# Altium schematic symbol library VapeixS_LIB.SchLib: 32 symbols
Pins are listed as number, name and electrical type; pins without a type are passive.

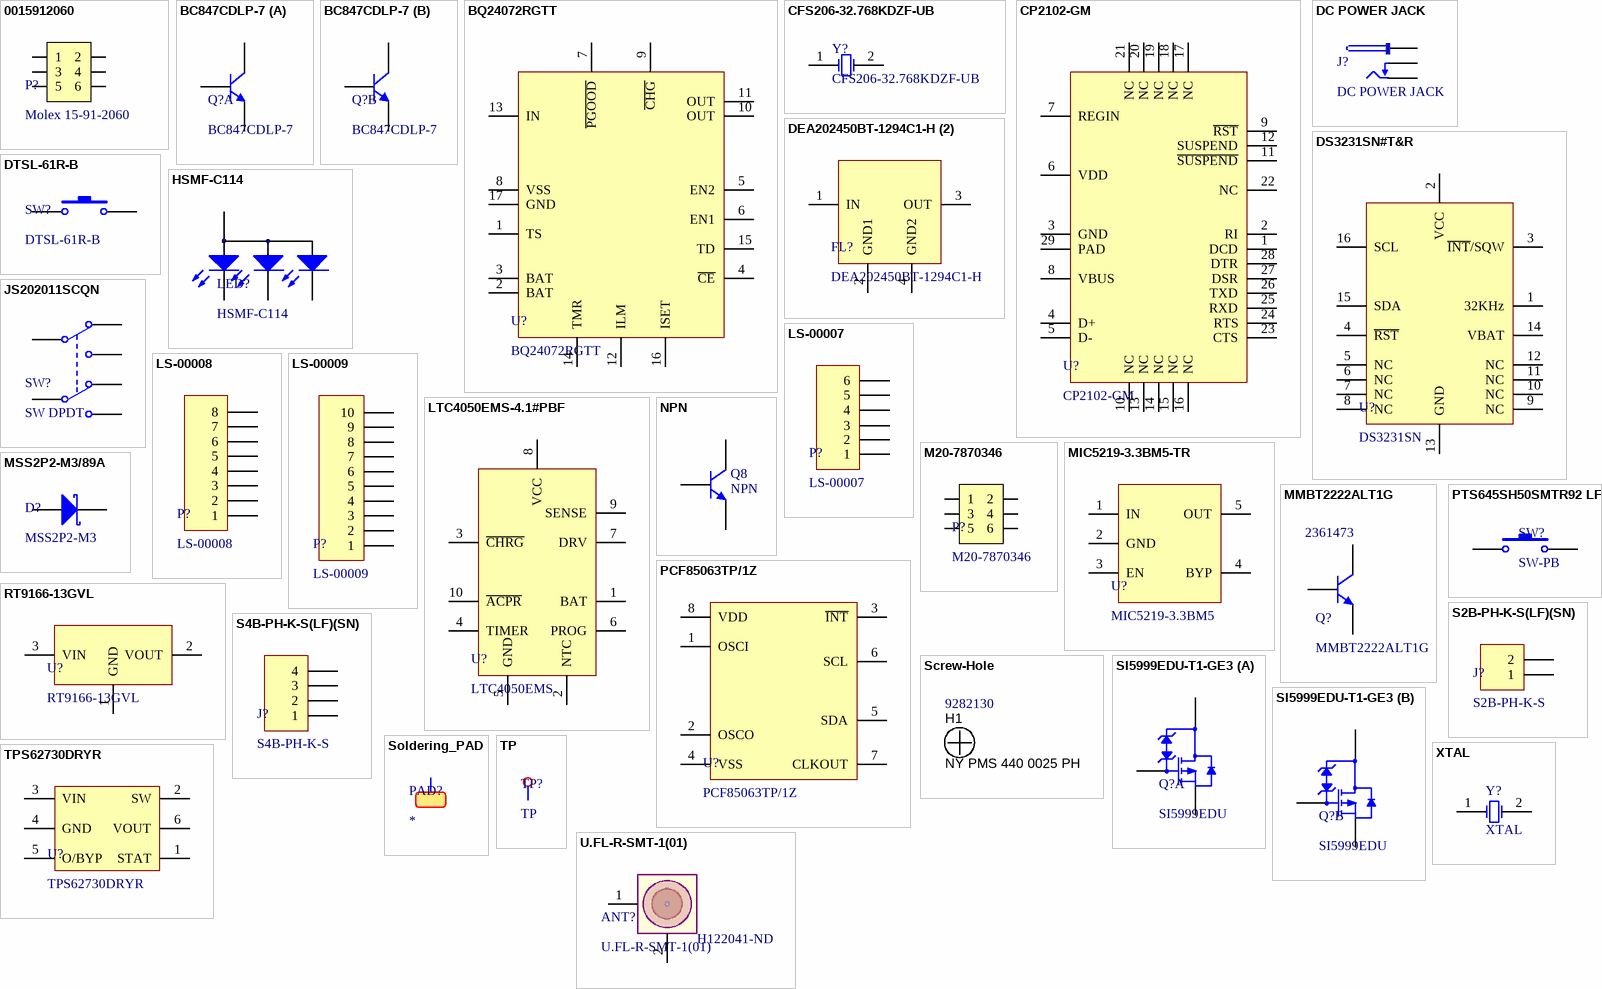
[diagram p0: symbols 0015912060 to XTAL]

## 0015912060
designator P?, comment Molex 15-91-2060
CONN HEADER 6POS .100" VERT TIN; Manufacturer: Molex, LLC; Manufacturer Part Number: 0015912060; Connector Type: Header, Unshrouded, Breakaway; Number of Positions: 6; Number of Positions Loaded: All; Pitch: 0.100" (2.54mm); Frequency: 32.768 kHz; Load Capacitance: 12.5 pF; Tolerance: 20 PPM; Brand: Citizen FineDevice; ESR: 35 kOhms; Supplier 1: Digi-Key; RoHS: RoHS Compliant; Category: Connectors, Interconnects; Stock 1: 10294; Pricing 1: 1=0.43, 10=0.4, 25=0.36, 50=0.32, 100=0.3066, 250=0.27992, 500=0.2666, 1000=0.21995, 2500=0.19995 (USD); Packaging: Bulk; Contact Type: Male Pin; Number of Rows: 2; Row Spacing: 0.100" (2.54mm); Contact Mating Length: 0.240" (6.10mm); Mounting Type: Surface Mount; Termination: Solder; Fastening Type: -; Features: -; Contact Finish: Tin; Contact Finish Thickness: 150µin (3.81µm); Color: Black; ComponentLink1URL: http://www.molex.com/pdm_docs/sd/015912060_sd.pdf; ComponentLink1Description: http://www.molex.com/pdm_docs/sd/015912060_sd.pdf; Supplier 2: Mouser; Stock 2: 8057; Pricing 2: 1=0.300, 10=0.260, 50=0.220, 100=0.180, 500=0.160, 1000=0.140, 2000=0.130, 5000=0.120, 10000=0.110 (USD); Diameter: 2 mm; Length: 6 mm; Operating Temperature Range: - 20 C to + 70 C; Package / Case: Cylinder; Series: CFS-206/CFS-145/CFV-206; Termination Style: Radial; Type: Tuning Fork Crystal; Mounting Style: Through Hole; Lead Spacing: 0.7 mm; Product Category: KHz Range Crystals; Standard Pack Qty: 1000; RoHS - Mouser: Y; Minimum Order Quantity: 1; Reeling: False; ComponentLink2URL: http://www.mouser.com/ds/2/77/CFS-CFV-4402.pdf; ComponentLink2Description: http://www.mouser.com/ds/2/77/CFS-CFV-4402.pdf; Supplier 3: Digi-Key; Supplier 4: Digi-Key
footprint Molex 15-91-2060
pins: 1, 2, 3 (power), 4 (power), 5 (power), 6 (power)

## BC847CDLP-7
designator Q?
TRANS 2NPN 45V 0.1A 6DFN; Manufacturer: Diodes Incorporated; Transistor Type: 2 NPN (Dual); Current - Collector (Ic) (Max): 100mA; Vce Saturation (Max) @ Ib, Ic: 600mV @ 5mA, 100mA; Current - Collector Cutoff (Max): 15nA; DC Current Gain (hFE) (Min) @ Ic, Vce: 420 @ 2mA, 5V; Power - Max: 350mW; Frequency - Transition: 100MHz; Supplier 1: Digi-Key; Manufacturer Part Number: BC847CDLP-7; RoHS: RoHS Compliant; Category: Discrete Semiconductor Products; Stock 1: 11845; Pricing 1: 1=0.36, 10=0.29, 100=0.198, 500=0.1482, 1000=0.111 (USD); Packaging: Cut Tape (CT); Voltage - Collector Emitter Breakdown (Max): 45V; Mounting Type: Surface Mount; Package / Case: 6-SMD, No Lead; Supplier Device Package: 6-DFN1310H4 (1.0x1.3); ComponentLink1URL: http://www.diodes.com/_files/datasheets/ds30817.pdf; ComponentLink1Description: http://www.diodes.com/_files/datasheets/ds30817.pdf
footprint BC847CDLP-7 (TRANS 2NPN 45V 0.1A 6DFN)
part A pins: 1 E1, 2 B1, 3 C1
part B pins: 4 E2, 5 B2, 6 C2

## BQ24072RGTT
designator U?
TEXAS INSTRUMENTS - BQ24072RGTT - BATTERY CHARGER LI-ION, 1.5A, QFN-16; Input Voltage: 26; Battery Charge Voltage: 4.2; Charge Current Max: 1.2; Battery IC Case Style: QFN; No. of Pins: 16; No. of Series Cells: 1; Supplier 1: Newark; Manufacturer: TEXAS INSTRUMENTS; Manufacturer Part Number: BQ24072RGTT; RoHS: YES; Stock 1: 134; Pricing 1: 1=1.6, 10=1.6, 25=1.47, 50=1.47, 100=1.47 (USD); Battery Type: Li-Ion; Operating Temperature Min: -40 C; ComponentLink1URL: http://www.farnell.com/cad/1638885.zip; ComponentLink1Description: http://www.farnell.com/cad/1638885.zip; ComponentLink2URL: http://www.farnell.com/datasheets/2001589.pdf; ComponentLink2Description: http://www.farnell.com/datasheets/2001589.pdf; Supplier Part Number 1: 12P6258
footprint BQ24072RGTT (TEXAS INSTRUMENTS - BQ24072RGTT - BATTERY CHARGER LI-ION, 1.5A, QFN-16)
pins: 1 TS, 2 BAT, 3 BAT, 4 ~{CE}, 5 EN2, 6 EN1, 7 ~{PGOOD}, 8 VSS, 9 ~{CHG}, 10 OUT, 11 OUT, 12 ILM, 13 IN, 14 TMR, 15 TD, 16 ISET, 17 GND

## CFS206-32.768KDZF-UB
designator Y?
Crystals 32.768 KHz 12.5pF CYLINDER CRYSTAL; Manufacturer: Citizen FineDevice; Tolerance: 20 PPM; ESR: 35 kOhms; Supplier 1: Mouser; Manufacturer Part Number: CFS206-32.768KDZF-UB; RoHS: RoHS Compliant; Category: Crystals; Stock 1: 8057; Pricing 1: 1=0.300, 10=0.260, 50=0.220, 100=0.180, 500=0.160, 1000=0.140, 2000=0.130, 5000=0.120, 10000=0.110 (USD); Diameter: 2 mm; Frequency: 32.768 kHz; Length: 6 mm; Load Capacitance: 12.5 pF; Operating Temperature Range: - 20 C to + 70 C; Package / Case: Cylinder; Packaging: Bulk; Series: CFS-206/CFS-145/CFV-206; Termination Style: Radial; Type: Tuning Fork Crystal; Brand: Citizen FineDevice; Mounting Style: Through Hole; Lead Spacing: 0.7 mm; Product Category: KHz Range Crystals; Standard Pack Qty: 1000; RoHS - Mouser: Y; Minimum Order Quantity: 1; Reeling: False; ComponentLink1URL: http://www.mouser.com/ds/2/77/CFS-CFV-4402.pdf; ComponentLink1Description: http://www.mouser.com/ds/2/77/CFS-CFV-4402.pdf
footprint CFS206-32.768KDZF-UB (Crystals 32.768 KHz 12.5pF CYLINDER CRYSTAL)
pins: 1 OSC1, 2 OSC2

## CP2102-GM
designator U?
SILICON LABS - CP2102-GM - USB-TO-UART BRIDGE, 3.6V, MLP-28; USB Type: USB UART; USB Standard: USB 2.0; Supply Voltage Min: 3; Supply Voltage Max: 3.6; Interface Case Style: QFN; No. of Pins: 28; Data Rate: 1; No. of Ports: 1 Port; Base Number: 2102; Bridge Type: USB to UART; Supply Voltage Range: 3V to 5.25V<!--FANDB--><div class="features-and-benefits-container"><div class="features-and-benefits-desc-container"><span class="features-and-benefits-container-desc">USB to UART Bridge Controller in QFN-28 Package</span></div><div class="features-and-benefits-description"><span class="features-benefits-value">The CP2102-GM is a highly integrated USB to UART Bridge Controller providing a simple solution for updating RS-232 designs to USB using a minimum of components and PCB space. The CP2102-GM includes a USB 2.0 full speed function controller, USB transceiver, oscillator, EEPROM, and asynchronous serial data bus (UART) with full modem control signals. No other external USB components are required. The on chip EEPROM may be used to customise the USB Vendor ID, Product ID, Product Description String, Power Descriptor, Device Release Number, and Device Serial Number as desired for OEM applications. The EEPROM is programmed on board via the USB, allowing the programming step to be easily integrated into the product manufacturing and testing process.</span></div><div class="features-and-benefits-list"><ul class="features-and-benefits-list-list"><li class="features-and-benefits-list-item">Integrated USB transceiver; no external crystal required</li><li class="features-and-benefits-list-item">Integrated 1024 Byte EEPROM</li><li class="features-and-benefits-list-item">On chip power on reset circuit</li><li class="features-and-benefits-list-item">On chip voltage regulator: 3.3V output</li><li class="features-and-benefits-list-item">USB Specification 2.0 compliant; full-speed (12 Mbps)</li><li class="features-and-benefits-list-item">USB suspend states supported via SUSPEND pins</li><li class="features-and-benefits-list-item">All handshaking and modem interface signals</li><li class="features-and-benefits-list-item">Baud rates: 300 bps to 1 Mbits</li><li class="features-and-benefits-list-item">576 Byte receive buffer; Supplier 1: Farnell; Manufacturer: SILICON LABS; Manufacturer Part Number: CP2102-GM; RoHS: YES; Stock 1: 9194; Pricing 1: 1=1.82, 10=1.72, 100=1.69, 250=1.66, 500=1.62, 2000=1.59, 3000=1.56, 5000=1.55 (GBP); Operating Temperature Min: -40; Operating Temperature Max: 85; Packaging: Each; MSL: -; Logic Function Number: 2102; Operating Temperature Range: -40°C to +85; ComponentLink1URL: http://www.farnell.com/datasheets/1694195.pdf; ComponentLink1Description: http://www.farnell.com/datasheets/1694195.pdf; Supplier Part Number 1: 9282130
footprint CP2102-GM (SILICON LABS - CP2102-GM - USB-TO-UART BRIDGE, 3.6V, MLP-28)
pins: 1 DCD, 2 RI, 3 GND, 4 D+, 5 D-, 6 VDD, 7 REGIN, 8 VBUS, 9 ~{RST}, 10 NC, 11 ~{SUSPEND}, 12 SUSPEND, 13 NC, 14 NC, 15 NC, 16 NC, 17 NC, 18 NC, 19 NC, 20 NC, 21 NC, 22 NC, 23 CTS, 24 RTS, 25 RXD, 26 TXD, 27 DSR, 28 DTR, 29 PAD

## DC POWER JACK
designator J?
Adafruit Accessories 2.1mm DC Barrel Jack Breadboard Friendly; Manufacturer Part Number: 373; Supplier 1: Mouser; Manufacturer: Adafruit; RoHS: RoHS Compliant; Category: Adafruit Accessories; Stock 1: 0; Pricing 1: 1=0.950, 10=0.860 (USD); Product: Connectors; Type: DC Power Connectors; Brand: Adafruit; RoHS - Mouser: Y; Minimum Order Quantity: 1; Reeling: False
footprint DC POWER JACK (Adafruit Accessories 2.1mm DC Barrel Jack Breadboard Friendly)
pins: 1, 2, 3

## DEA202450BT-1294C1-H (2)
designator FL?, comment DEA202450BT-1294C1-H
FILTER BANDPASS WLAN&BLUETOOTH; Manufacturer: TDK Corporation; Supplier 1: Digi-Key; Manufacturer Part Number: DEA202450BT-1294C1-H; RoHS: RoHS Compliant; Category: Filters; Stock 1: 14479; Pricing 1: 1=0.51, 10=0.477, 100=0.4252, 250=0.40324, 500=0.33724, 1000=0.26173 (USD); ComponentLink1URL: https://product.tdk.com/info/en/documents/data_sheet/rf_bpf_dea202450bt-1294c1-h_en.pdf; ComponentLink1Description: https://product.tdk.com/info/en/documents/data_sheet/rf_bpf_dea202450bt-1294c1-h_en.pdf; Supplier Part Number 1: 445-172335-1-ND
footprint DEA202450BT-1294C1-H (FILTER BANDPASS WLAN&BLUETOOTH)
pins: 1 IN, 2 GND1, 3 OUT, 4 GND2

## DS3231SN#T&R
designator U?, comment DS3231SN
IC RTC CLK/CALENDAR I2C 16-SOIC; Manufacturer: Maxim Integrated; Manufacturer Part Number: DS3231SN#T&R; Time Format: HH:MM:SS (12/24 hr); Date Format: YY-MM-DD-dd; Interface: I²C, 2-Wire Serial; Voltage - Supply: 2.3 V ~ 5.5 V; Current - Timekeeping (Max): 110µA ~ 170µA @ 3.63V ~ 5.5V; Supplier 1: Digi-Key; RoHS: RoHS Compliant; Category: Integrated Circuits (ICs); Stock 1: 4351; Pricing 1: 1=9.97, 10=9.41, 25=7.5276, 50=7.1512, 100=6.5867, 250=6.24792, 500=6.02208 (USD); Packaging: Cut Tape (CT); Type: Clock/Calendar; Features: Alarm, Leap Year, Square Wave Output, TCXO/Crystal; Memory Size: -; Voltage - Supply, Battery: 2.3 V ~ 5.5 V; Operating Temperature: -40°C ~ 85°C; Mounting Type: Surface Mount; Package / Case: 16-SOIC (0.295", 7.50mm Width); Supplier Device Package: 16-SOIC; ComponentLink1URL: http://datasheets.maximintegrated.com/en/ds/DS3231-DS3231S.pdf; ComponentLink1Description: http://datasheets.maximintegrated.com/en/ds/DS3231-DS3231S.pdf
footprint DS3231SN (IC RTC CLK/CALENDAR I2C 16-SOIC)
pins: 1 32KHz, 2 VCC, 3 ~{INT}/SQW, 4 ~{RST}, 5 NC, 6 NC, 7 NC, 8 NC, 9 NC, 10 NC, 11 NC, 12 NC, 13 GND, 14 VBAT, 15 SDA, 16 SCL

## DTSL-61R-B
designator SW?
MULTICOMP - DTSL-61R-B - TACTILE SWITCH, SPNO, SMD; Supplier 1: Farnell; Manufacturer: MULTICOMP; Manufacturer Part Number: DTSL-61R-B; RoHS: YES; Stock 1: 15029; Pricing 1: 5=0.477, 50=0.399, 100=0.366, 250=0.314, 500=0.254, 2000=0.228, 4000=0.2, 20000=0.18 (GBP); ComponentLink1URL: http://www.farnell.com/cad/44709.pdf; ComponentLink1Description: http://www.farnell.com/cad/44709.pdf; ComponentLink2URL: http://www.farnell.com/datasheets/1685039.pdf; ComponentLink2Description: http://www.farnell.com/datasheets/1685039.pdf
pins: 1, 2

## HSMF-C114
designator LED?
LED RGB DIFFUSED 0606 SMD; Manufacturer: Broadcom Limited; Color: Red, Green, Blue (RGB); Lens Color: White; Millicandela Rating: 85mcd Red, 180mcd Green, 70mcd Blue; Lens Style/Size: Rectangle with Flat Top, 1.10mm x 1.50mm; Voltage - Forward (Vf) (Typ): 1.9V Red, 3.4V Green, 3.4V Blue; Current - Test: 20mA Red, 20mA Green, 20mA Blue; Viewing Angle: 140° Red, 145° Green, 145° Blue; Wavelength - Dominant: 626nm Red, 525nm Green, 470nm Blue; Wavelength - Peak: 637nm Red, 523nm Green, 468nm Blue; Supplier 1: Digi-Key; Manufacturer Part Number: HSMF-C114; RoHS: RoHS Compliant; Category: Optoelectronics; Stock 1: 11787; Pricing 1: 1=2.03, 10=1.62, 25=1.2376, 100=1.125, 250=0.99, 500=0.8325, 1000=0.72 (USD); Packaging: Digi-Reel®; Lens Transparency: Diffused; Mounting Type: Surface Mount; Features: -; Package / Case: 0606 (1616 Metric); Supplier Device Package: Chip LED; Size / Dimension: 1.60mm L x 1.50mm W; Height (Max): 0.35mm; ComponentLink1URL: http://www.avagotech.com/docs/AV02-2451EN; ComponentLink1Description: http://www.avagotech.com/docs/AV02-2451EN
footprint HSMF-C114 (LED RGB DIFFUSED 0606 SMD)
pins: 1 ANODE, 2 RED, 3 GREEN, 4 BLUE

## JS202011SCQN
designator SW?, comment SW DPDT
SWITCH SLIDE DPDT 300MA 6V; Manufacturer: C&K Components; Manufacturer Part Number: JS202011SCQN; Contact Timing: Not Specified; Switch Function: On-On; Current Rating: 300mA (DC); Actuator Type: Standard; Actuator Length: 2.00mm; Actuator Material: Polyamide (PA46), Nylon 4/6; Electrical Life: 5,000 Cycles; Supplier 1: Digi-Key; RoHS: RoHS Compliant; Category: Switches; Stock 1: 26140; Pricing 1: 1=0.46, 10=0.441, 25=0.4316, 50=0.3858, 100=0.3674, 250=0.3582, 500=0.3031 (USD); Packaging: Cut Tape (CT); Circuit: DPDT; Voltage Rating - AC: -; Voltage Rating - DC: 6V; Contact Material: Copper Alloy; Contact Finish: Silver; Mounting Type: Surface Mount; Termination Style: Gull Wing; Features: -; Switch Travel: 2.00mm; Operating Temperature: -40°C ~ 85°C; Mechanical Life: -; Operating Force: -; ComponentLink1URL: http://www.ck-components.com/14398/js_7jan16.pdf/; ComponentLink1Description: http://www.ck-components.com/14398/js_7jan16.pdf/
footprint JS202011SCQN (SWITCH SLIDE DPDT 300MA 6V)
pins: 1 NC1, 2 COMMON1, 3 NO1, 4 NC2, 5 COMMON2, 6 NO2

## LS-00007
designator P?
Arduino Female Stackable Header - 6 pin(4 pack); Manufacturer: OSEPP; Supplier 1: Allied; Manufacturer Part Number: LS-00007; RoHS: No; Stock 1: 27; Pricing 1: 1=1.7500, 10=1.5700, 25=1.4100 (USD); ComponentLink1URL: http://www.alliedelec.com/images/products/datasheets/bm/OSEPP/70662540.pdf; ComponentLink1Description: http://www.alliedelec.com/images/products/datasheets/bm/OSEPP/70662540.pdf; ComponentLink2URL: http://www.alliedelec.com/osepp-ls-00007/70662540/; ComponentLink2Description: http://www.alliedelec.com/osepp-ls-00007/70662540/
footprint LS-00007 (Arduino Female Stackable Header - 6 pin(4 pack))
pins: 1, 2, 3, 4, 5, 6

## LS-00008
designator P?
Arduino Femal e Stackable Headers - 8 pin (4 pack); Manufacturer: OSEPP; Supplier 1: Allied; Manufacturer Part Number: LS-00008; RoHS: No; Stock 1: 3; Pricing 1: 1=1.7500, 10=1.5700, 25=1.4000 (USD); ComponentLink1URL: http:; ComponentLink1Description: http:; ComponentLink2URL: http://www.alliedelec.com/osepp-ls-00008/70662541/; ComponentLink2Description: http://www.alliedelec.com/osepp-ls-00008/70662541/
footprint LS-00008 (Arduino Femal e Stackable Headers - 8 pin (4 pack))
pins: 1, 2, 3, 4, 5, 6, 7, 8

## LS-00009
designator P?
Arduino Female Stackable Header - 10 pin (4 pack); Manufacturer: OSEPP; Supplier 1: Allied; Manufacturer Part Number: LS-00009; RoHS: No; Stock 1: 150; Pricing 1: 1=1.7500, 10=1.5700, 25=1.4000 (USD); ComponentLink1URL: http:; ComponentLink1Description: http:; ComponentLink2URL: http://www.alliedelec.com/osepp-ls-00009/70662542/; ComponentLink2Description: http://www.alliedelec.com/osepp-ls-00009/70662542/
footprint LS-00009 (Arduino Female Stackable Header - 10 pin (4 pack))
pins: 1, 2, 3, 4, 5, 6, 7, 8, 9, 10

## LTC4050EMS-4.1#PBF
designator U?, comment LTC4050EMS
IC BATT CHRG CNTRL LI-ION 10MSOP; Manufacturer: Linear Technology; Manufacturer Part Number: LTC4050EMS-4.1#PBF; Function: Charge Management; Voltage - Supply: 4.5 V ~ 10 V; Supplier 1: Digi-Key; RoHS: RoHS Compliant; Category: Integrated Circuits (ICs); Stock 1: 1327; Pricing 1: 1=4.77, 25=3.1696, 100=2.3869 (USD); Packaging: Tube; Battery Chemistry: Li-Ion; Operating Temperature: -40°C ~ 85°C; Mounting Type: Surface Mount; Package / Case: 10-TFSOP, 10-MSOP (0.118", 3.00mm Width); Supplier Device Package: 10-MSOP; ComponentLink1URL: http://www.linear.com/docs/3321; ComponentLink1Description: http://www.linear.com/docs/3321
footprint LTC4050EMS (IC BATT CHRG CNTRL LI-ION 10MSOP)
pins: 1 BAT, 2 NTC, 3 ~{CHRG}, 4 TIMER, 5 GND, 6 PROG, 7 DRV, 8 VCC, 9 SENSE, 10 ~{ACPR}

## M20-7870346
designator P?
Headers & Wire Housings 03+03 DIL SMT SKT BOTTOM ENTRY TIN; Manufacturer: Harwin; Number of Positions: 6 Position; Pitch: 2.54 mm; Supplier 1: Mouser; Manufacturer Part Number: M20-7870346; RoHS: RoHS Compliant; Category: Headers & Wire Housings; Stock 1: 507; Pricing 1: 1=0.730, 10=0.584, 100=0.508, 500=0.457, 1000=0.406, 2500=0.368, 5000=0.356, 10000=0.338, 25000=0.325 (USD); Number of Rows: 2 Row; Packaging: Tube; Product: Headers; Series: M20; Termination Style: SMD; Type: Socket Assembly; Brand: Harwin; Mounting Style: -; Product Category: 2.54mm M20 SMT Connectors; Standard Pack Qty: 73; RoHS - Mouser: Y; Minimum Order Quantity: 1; Reeling: False; ComponentLink1URL: http://www.mouser.com/ds/2/181/M20-787-350754.pdf; ComponentLink1Description: http://www.mouser.com/ds/2/181/M20-787-350754.pdf
footprint CLH-103-F-D-BE-K-TR (SAMTEC - CLH-103-F-D-BE-K-TR - SOCKET, 2.54MM, SMT, 6WAY)
pins: 1, 2, 3 (power), 4 (power), 5 (power), 6 (power)

## MIC5219-3.3BM5-TR
designator U?, comment MIC5219-3.3BM5
IC REG LDO 3.3V 0.5A SOT23-5; Manufacturer: Microchip Technology; Manufacturer Part Number: MIC5219-3.3BM5-TR; Regulator Topology: Positive Fixed; Current - Output: 500mA; Voltage - Dropout (Typical): 0.35V @ 500mA; Number of Regulators: 1; Voltage - Input: Up to 12V; Supplier 1: Digi-Key; RoHS: RoHS Compliant; Category: Integrated Circuits (ICs); Stock 1: 0; Pricing 1: 3000=0.598 (USD); Packaging: Tape & Reel (TR); Voltage - Output: 3.3V; Current - Limit (Min): -; Operating Temperature: -40°C ~ 125°C; Mounting Type: Surface Mount; Package / Case: SC-74A, SOT-753; Supplier Device Package: SOT-23-5; ComponentLink1URL: http://www.microchip.com/mymicrochip/filehandler.aspx?ddocname=en579712; ComponentLink1Description: http://www.microchip.com/mymicrochip/filehandler.aspx?ddocname=en579712
footprint MIC5219-3.3BM5 (IC REG LDO 3.3V 0.5A SOT23-5)
pins: 1 IN, 2 GND, 3 EN, 4 BYP, 5 OUT

## MMBT2222ALT1G
designator Q?  Supplier Part Number 2: 2361473
TRANS NPN 40V 0.6A SOT23; Manufacturer: ON Semiconductor; Current - Collector (Ic) (Max): 600mA; Vce Saturation (Max) @ Ib, Ic: 1V @ 50mA, 500mA; Current - Collector Cutoff (Max): 10nA (ICBO); DC Current Gain (hFE) (Min) @ Ic, Vce: 100 @ 150mA, 10V; Power - Max: 300mW; Frequency - Transition: 300MHz; Supplier 1: Digi-Key; Manufacturer Part Number: MMBT2222ALT1G; RoHS: RoHS Compliant; Category: Discrete Semiconductor Products; Stock 1: 0; Pricing 1: 1=0.1, 10=0.095, 100=0.0516, 500=0.03172, 1000=0.02163 (USD); Packaging: Cut Tape (CT); Transistor Type: NPN; Voltage - Collector Emitter Breakdown (Max): 40V; Mounting Type: Surface Mount; Package / Case: TO-236-3, SC-59, SOT-23-3; Supplier Device Package: SOT-23; ComponentLink1URL: http://www.onsemi.com/pub_link/Collateral/MMBT2222LT1-D.PDF; ComponentLink1Description: http://www.onsemi.com/pub_link/Collateral/MMBT2222LT1-D.PDF; Supplier 2: Farnell; Stock 2: 234; Pricing 2: 1=2.55, 10=2.14, 100=1.78, 250=1.77, 500=1.76, 1000=1.75, 3000=1.74 (GBP); ComponentLink2URL: http://www.farnell.com/datasheets/2013251.pdf; ComponentLink2Description: http://www.farnell.com/datasheets/2013251.pdf
footprint MMBT2222ALT1G (TRANS NPN 40V 0.6A SOT23)
pins: 1 B, 2 E, 3 C

## MSS2P2-M3/89A
designator D?, comment MSS2P2-M3
DIODE SCHOTTKY 20V 2A MICROSMP; Manufacturer: Vishay Semiconductor Diodes Division; Manufacturer Part Number: MSS2P2-M3/89A; Voltage - Forward (Vf) (Max) @ If: 600mV @ 2A; Speed: Fast Recovery =< 500ns, > 200mA (Io); Current - Reverse Leakage @ Vr: 250µA @ 20V; Capacitance @ Vr, F: 65pF @ 4V, 1MHz; Supplier 1: Digi-Key; RoHS: RoHS Compliant; Category: Discrete Semiconductor Products; Stock 1: 3961; Pricing 1: 1=0.37, 10=0.274, 100=0.1552, 500=0.1029, 1000=0.07892 (USD); Packaging: Digi-Reel®; Diode Type: Schottky; Voltage - DC Reverse (Vr) (Max): 20V; Current - Average Rectified (Io): 2A; Reverse Recovery Time (trr): -; Mounting Type: Surface Mount; Package / Case: MicroSMP; Supplier Device Package: MicroSMP; Operating Temperature - Junction: -55°C ~ 150°C; ComponentLink1URL: http://www.vishay.com/docs/89054/mss2p3.pdf; ComponentLink1Description: http://www.vishay.com/docs/89054/mss2p3.pdf
footprint MSS2P2-M3 (DIODE SCHOTTKY 20V 2A MICROSMP)
pins: 1 A, 2 K

## NPN
designator Q8
NPN Bipolar Transistor; Published: 8-Jun-2000; LatestRevisionDate: 17-Jul-2002; LatestRevisionNote: Re-released for DXP Platform.; PackageReference: TO-226-AA; Publisher: Altium Limited; PackageDescription: TO, Flat Index; 3 In-Line, Axial Leads; Body Dia. 4.8mm; Leads 0.55 x 0.51 mm (max); Code_JEDEC: TO-226-AA
footprint TO-226-AA (TO, Flat Index; 3 In-Line, Axial Leads; Body Dia. 4.8mm; Leads 0.55 x 0.51 mm (max))
simulation model NPN
signal-integrity model NPN
pins: 1 C, 2 B, 3 E

## PCF85063TP/1Z
designator U?
IC RTC CLK/CALENDAR I2C 8-SON; Manufacturer: NXP Semiconductors; Time Format: HH:MM:SS (12/24 hr); Date Format: YY-MM-DD-dd; Interface: I²C, 2-Wire Serial; Voltage - Supply: 0.9 V ~ 5.5 V; Current - Timekeeping (Max): 0.6µA @ 3.3V; Supplier 1: Digi-Key; Manufacturer Part Number: PCF85063TP/1Z; RoHS: RoHS Compliant; Category: Integrated Circuits (ICs); Stock 1: 17308; Pricing 1: 1=0.74, 10=0.646, 100=0.494, 500=0.3914, 1000=0.3135 (USD); Packaging: Cut Tape (CT); Type: Clock/Calendar; Features: Alarm, Leap Year, Square Wave Output; Memory Size: -; Voltage - Supply, Battery: -; Operating Temperature: -40°C ~ 85°C; Mounting Type: Surface Mount; Package / Case: 8-WFDFN Exposed Pad; Supplier Device Package: 8-HWSON (2x3); ComponentLink1URL: http://www.nxp.com/documents/data_sheet/PCF85063TP.pdf; ComponentLink1Description: http://www.nxp.com/documents/data_sheet/PCF85063TP.pdf; Supplier Part Number 1: 568-10236-1-ND
footprint PCF85063TP (IC RTC CLK/CALENDAR I2C 8-SON)
pins: 1 OSCI, 2 OSCO, 3 ~{INT}, 4 VSS, 5 SDA, 6 SCL, 7 CLKOUT, 8 VDD

## PTS645SH50SMTR92 LFS
designator SW?, comment SW-PB
SWITCH TACTILE SPST-NO 0.05A 12V; Manufacturer: C&K Components; Manufacturer Part Number: PTS645SH50SMTR92 LFS; Switch Function: Off-Mom; Contact Rating @ Voltage: 0.05A @ 12VDC; Actuator Type: Standard; Actuator Height off PCB, from Pins: 5.00mm; Actuator Orientation: Top Actuated; Outline: 6.00mm x 6.00mm; Illumination: Non-Illuminated; Operating Force: 200gf; Actuator Material: Polyamide (PA66), Nylon 6/6; Mechanical Life: 100,000 Cycles; Supplier 1: Digi-Key; RoHS: RoHS Compliant; Category: Switches; Stock 1: 54599; Pricing 1: 1=0.29, 10=0.281, 25=0.2712, 50=0.2614, 100=0.2468, 250=0.23232, 500=0.22264 (USD); Packaging: Digi-Reel®; Circuit: SPST-NO; Mounting Type: Surface Mount; Termination Style: Gull Wing; Illumination Voltage (Nominal): -; Illumination Type, Color: -; Ingress Protection: -; Features: -; Switch Travel: -; Operating Temperature: -20°C ~ 60°C; ComponentLink1URL: http://www.ck-components.com/14409/pts645_7jan16.pdf/; ComponentLink1Description: http://www.ck-components.com/14409/pts645_7jan16.pdf/
footprint PTS645SH50SMTR92 (SWITCH TACTILE SPST-NO 0.05A 12V)
pins: 1, 2

## RT9166-13GVL
designator U?
IC REG LDO 1.3V 0.3A SOT23-3; Manufacturer: Richtek USA Inc.; Regulator Topology: Positive Fixed; Current - Output: 300mA; Voltage - Dropout (Typical): 0.23V @ 300mA; Number of Regulators: 1; Voltage - Input: 2.8 V ~ 5.5 V; Supplier 1: Digi-Key; Manufacturer Part Number: RT9166-13GVL; RoHS: RoHS Compliant; Category: Integrated Circuits (ICs); Stock 1: 0; Pricing 1: 9000=0.09486 (USD); Packaging: Tape & Reel (TR); Voltage - Output: 1.3V; Current - Limit (Min): 300mA; Operating Temperature: -40°C ~ 85°C; Mounting Type: Surface Mount; Package / Case: TO-236-3, SC-59, SOT-23-3; Supplier Device Package: SOT-23-3L; ComponentLink1URL: http://www.richtek.com/assets/product_file/RT9166=RT9166A/DS9166A-23.pdf; ComponentLink1Description: http://www.richtek.com/assets/product_file/RT9166=RT9166A/DS9166A-23.pdf
footprint RT9166-13GVL (IC REG LDO 1.3V 0.3A SOT23-3)
pins: 1 GND, 2 VOUT, 3 VIN

## S2B-PH-K-S(LF)(SN)
designator J?, comment S2B-PH-K-S
CONN HEADER PH SIDE 2POS 2MM; Manufacturer: JST Sales America Inc.; Manufacturer Part Number: S2B-PH-K-S(LF)(SN); Connector Type: Header, Shrouded; Number of Positions: 2; Number of Positions Loaded: All; Pitch: 0.079" (2.00mm); Supplier 1: Digi-Key; RoHS: RoHS Compliant; Category: Connectors, Interconnects; Stock 1: 71254; Pricing 1: 1=0.17, 10=0.161, 25=0.1196, 50=0.1026, 100=0.0991, 250=0.08544, 500=0.08202, 1000=0.07177, 2500=0.06494 (USD); Packaging: Bulk; Contact Type: Male Pin; Number of Rows: 1; Row Spacing: -; Contact Mating Length: 0.130" (3.30mm); Mounting Type: Through Hole, Right Angle; Termination: Press-Fit, Solder; Fastening Type: Detent Lock; Features: -; Contact Finish: Tin; Contact Finish Thickness: -; Color: Natural; ComponentLink1URL: http://www.jst-mfg.com/product/pdf/eng/ePH.pdf; ComponentLink1Description: http://www.jst-mfg.com/product/pdf/eng/ePH.pdf
footprint S2B-PH-K-S (CONN HEADER PH SIDE 2POS 2MM)
pins: 1, 2

## S4B-PH-K-S(LF)(SN)
designator J?, comment S4B-PH-K-S
CONN HEADER PH SIDE 4POS 2MM; Manufacturer: JST Sales America Inc.; Manufacturer Part Number: S4B-PH-K-S(LF)(SN); Connector Type: Header, Shrouded; Number of Positions: 4; Number of Positions Loaded: All; Pitch: 0.079" (2.00mm); Supplier 1: Digi-Key; RoHS: RoHS Compliant; Category: Connectors, Interconnects; Stock 1: 41576; Pricing 1: 1=0.22, 10=0.208, 25=0.1772, 50=0.155, 100=0.144, 250=0.1274, 500=0.12186, 1000=0.0997, 2500=0.09139 (USD); Packaging: Bulk; Contact Type: Male Pin; Number of Rows: 1; Row Spacing: -; Contact Mating Length: 0.130" (3.30mm); Mounting Type: Through Hole, Right Angle; Termination: Press-Fit, Solder; Fastening Type: Detent Lock; Features: -; Contact Finish: Tin; Contact Finish Thickness: -; Color: Natural; ComponentLink1URL: http://www.jst-mfg.com/product/pdf/eng/ePH.pdf; ComponentLink1Description: http://www.jst-mfg.com/product/pdf/eng/ePH.pdf
footprint S4B-PH-K-S (CONN HEADER PH SIDE 4POS 2MM)
pins: 1, 2, 3, 4

## Screw-Hole
designator H1, comment NY PMS 440 0025 PH  Supplier Part Number 4: 9282130
Machine Screw, Round, #4-40 x 1/4, Nylon, Philips panhead; Manufacturer: B&F Fastener Supply; Manufacturer Part Number: CP2102-GM; CompType: Hardware; SymbolCreator: codlsc; U/M: EA; USB Type: USB UART; USB Standard: USB 2.0; Supply Voltage Min: 3; Supply Voltage Max: 3.6; Interface Case Style: QFN; No. of Pins: 28; Data Rate: 1; No. of Ports: 1 Port; Base Number: 2102; Bridge Type: USB to UART; Supply Voltage Range: 3V to 5.25V<!--FANDB--><div class="features-and-benefits-container"><div class="features-and-benefits-desc-container"><span class="features-and-benefits-container-desc">USB to UART Bridge Controller in QFN-28 Package</span></div><div class="features-and-benefits-description"><span class="features-benefits-value">The CP2102-GM is a highly integrated USB to UART Bridge Controller providing a simple solution for updating RS-232 designs to USB using a minimum of components and PCB space. The CP2102-GM includes a USB 2.0 full speed function controller, USB transceiver, oscillator, EEPROM, and asynchronous serial data bus (UART) with full modem control signals. No other external USB components are required. The on chip EEPROM may be used to customise the USB Vendor ID, Product ID, Product Description String, Power Descriptor, Device Release Number, and Device Serial Number as desired for OEM applications. The EEPROM is programmed on board via the USB, allowing the programming step to be easily integrated into the product manufacturing and testing process.</span></div><div class="features-and-benefits-list"><ul class="features-and-benefits-list-list"><li class="features-and-benefits-list-item">Integrated USB transceiver; no external crystal required</li><li class="features-and-benefits-list-item">Integrated 1024 Byte EEPROM</li><li class="features-and-benefits-list-item">On chip power on reset circuit</li><li class="features-and-benefits-list-item">On chip voltage regulator: 3.3V output</li><li class="features-and-benefits-list-item">USB Specification 2.0 compliant; full-speed (12 Mbps)</li><li class="features-and-benefits-list-item">USB suspend states supported via SUSPEND pins</li><li class="features-and-benefits-list-item">All handshaking and modem interface signals</li><li class="features-and-benefits-list-item">Baud rates: 300 bps to 1 Mbits</li><li class="features-and-benefits-list-item">576 Byte receive buffer; SymbolVersion: 2009-10-28; MountType: N/A; RoHS: Y; PartNumber: NY PMS 440 0025 PH; PackageReference: Screw; DigiKeyPartNumber: H542-ND; ComponentLink1Description: Datasheet Link; ComponentLink1URL: http://www.fasnetdirect.com/refguide/Machinepancombo.pdf; ClassName: Mounting Holes; LatestRevisionDate: 2014-05-15; Publisher: Texas Instruments; Supplier 1: Digi-Key; Supplier Part Number 1: H542-ND; Supplier 4: Farnell; Stock 4: 9194; Pricing 4: 1=1.82, 10=1.72, 100=1.69, 250=1.66, 500=1.62, 2000=1.59, 3000=1.56, 5000=1.55 (GBP); Operating Temperature Min: -40; Operating Temperature Max: 85; Packaging: Each; MSL: -; Logic Function Number: 2102; Operating Temperature Range: -40°C to +85; ComponentLink2URL: http://www.farnell.com/datasheets/1694195.pdf; ComponentLink2Description: http://www.farnell.com/datasheets/1694195.pdf
footprint Screw_Hole (8mm x 8mm, Hole Size 3.2mm)

## SI5999EDU-T1-GE3
designator Q?, comment SI5999EDU
MOSFET 2P-CH 20V 6A POWERPAK; Manufacturer: Vishay Siliconix; Manufacturer Part Number: SI5999EDU-T1-GE3; FET Type: 2 P-Channel (Dual); FET Feature: Logic Level Gate; Rds On (Max) @ Id, Vgs: 59 mOhm @ 3.5A, 4.5V; Vgs(th) (Max) @ Id: 1.5V @ 250µA; Gate Charge (Qg) @ Vgs: 20nC @ 10V; Input Capacitance (Ciss) @ Vds: 496pF @ 10V; Power - Max: 10.4W; Supplier 1: Digi-Key; RoHS: RoHS Compliant; Category: Discrete Semiconductor Products; Stock 1: 2994; Pricing 1: 1=0.58, 10=0.51, 100=0.39, 500=0.309, 1000=0.2475 (USD); Packaging: Cut Tape (CT); Drain to Source Voltage (Vdss): 20V; Current - Continuous Drain (Id) @ 25°C: 6A; Operating Temperature: -55°C ~ 150°C (TJ); Mounting Type: Surface Mount; Package / Case: PowerPAK® ChipFET™ Dual; Supplier Device Package: PowerPAK® ChipFet Dual; ComponentLink1URL: http://www.vishay.com/docs/67019/si5999ed.pdf; ComponentLink1Description: http://www.vishay.com/docs/67019/si5999ed.pdf
footprint SI5999EDU (MOSFET 2P-CH 20V 6A POWERPAK)
part A pins: 1 S1, 2 G1, 7 D1
part B pins: 3 S2, 4 G2, 5 D2

## Soldering_PAD
designator PAD?
Soldering PAD
footprint Soldering_PAD (Soldering Pad)
pins: 1 TP

## TP
designator TP?
TEST POINT
footprint TP (Test Point)
pins: 1 TP

## TPS62730DRYR
designator U?
IC DCDC CONV STP-DN SYNC LP 6SON; Manufacturer: Texas Instruments; Voltage - Input: 1.9 V ~ 3.9 V; Number of Outputs: 1; Voltage - Output: 2.1V; Supplier 1: Digi-Key; Manufacturer Part Number: TPS62730DRYR; RoHS: RoHS Compliant; Category: Integrated Circuits (ICs); Stock 1: 16899; Pricing 1: 1=1.59, 10=1.423, 100=1.1092, 500=0.91728, 1000=0.585 (USD); Packaging: Digi-Reel®; Applications: Converter, Bluetooth (BLT); Operating Temperature: -40°C ~ 85°C; Mounting Type: Surface Mount; Package / Case: 6-UFDFN; Supplier Device Package: 6-SON (1.45x1); ComponentLink1URL: http://www.ti.com/lit/ds/symlink/tps62730.pdf; ComponentLink1Description: http://www.ti.com/lit/ds/symlink/tps62730.pdf
footprint TPS62730DRYR (IC DCDC CONV STP-DN SYNC LP 6SON)
pins: 1 STAT, 2 SW, 3 VIN, 4 GND, 5 O/BYP, 6 VOUT

## U.FL-R-SMT-1(01)
designator ANT?  Supplier Part Number 1: H122041-ND
CONN UMC JACK STR 50 OHM SMD; Manufacturer: Hirose Electric Co Ltd; Connector Style: U.FL, Ultra Miniature Coaxial; Connector Type: Jack, Male Pin; Contact Termination: Solder; Impedance: 50 Ohm; Frequency - Max: 6GHz; Body Material: Phosphor Bronze; Body Finish: Silver; Center Contact Plating: Gold; Dielectric Material: Liquid Crystal Polymer (LCP); Supplier 1: Digi-Key; Manufacturer Part Number: U.FL-R-SMT-1(01); RoHS: RoHS Compliant; Category: Connectors, Interconnects; Stock 1: 2248; Pricing 1: 1=1.28, 10=1.122, 25=1.056, 50=1.012, 100=0.968, 250=0.88, 500=0.792, 1000=0.704, 2500=0.638 (USD); Packaging: Bulk; Shield Termination: Solder; Mounting Type: Surface Mount; Cable Group: -; Fastening Type: Snap-On; Features: -; Housing Color: Silver; Ingress Protection: -; Center Contact Material: Phosphor Bronze; Voltage Rating: -; Operating Temperature: -40°C ~ 90°C; ComponentLink1URL: http://media.digikey.com/pdf/Data%20Sheets/Hirose%20PDFs/UFL%20Series.pdf; ComponentLink1Description: http://media.digikey.com/pdf/Data%20Sheets/Hirose%20PDFs/UFL%20Series.pdf
footprint UFL-R-SMT (CONN UMC JACK STR 50 OHM SMD)
pins: 1 SIG, 2 GND

## XTAL
designator Y?
Crystal Oscillator; Published: 8-Jun-2000; LatestRevisionDate: 17-Jul-2002; LatestRevisionNote: Re-released for DXP Platform.; PackageReference: R38; Publisher: Altium Limited; PackageDescription: Crystal, Thru-Hole; 2 Leads; Body 3.1 x 8.2 mm (Dia.xH)
footprint R38 (Crystal, Thru-Hole; 2 Leads; Body 3.1 x 8.2 mm (Dia.xH))
simulation model XTAL (Spice Subcircuit)
pins: 1 OSC1, 2 OSC2